# EAGLE library part M5ATOM (library M5Atom)
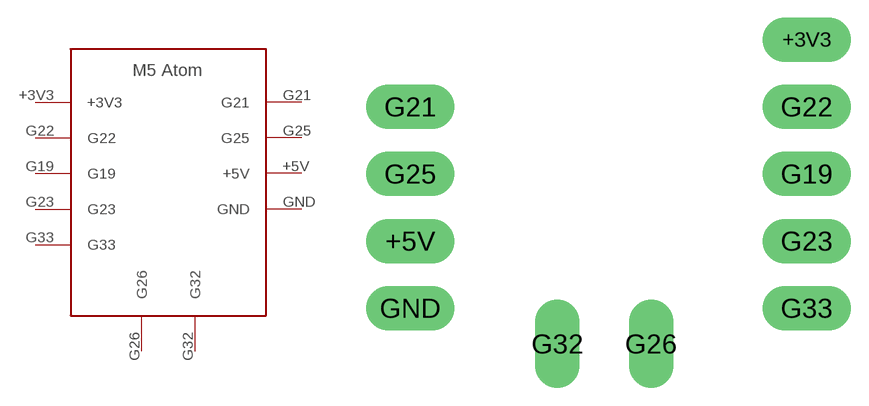
[diagram p0: symbol with the pads of M5ATOM; footprint M5ATOM]

Designator prefix -

## M5ATOM  [M5ATOM]
+3V3  +3V3
+5V  +5V
G19  G19
G21  G21
G22  G22
G23  G23
G25  G25
G26  G26
G32  G32
G33  G33
GND  GND

## Footprint M5ATOM (pad centres in mm)
drill 0.6 pad 1.676 long: +3V3 19,-9.84; +5V 4,-17.46; G19 19,-14.92; G21 4,-12.38; G22 19,-12.38; G23 19,-17.46; G25 4,-14.92; G26 13.11,-21.35; G32 9.57,-21.35; G33 19,-20; GND 4,-20